# EAGLE library part MICRO_FIT_3.0_16POS_RA (library UBCSolar)
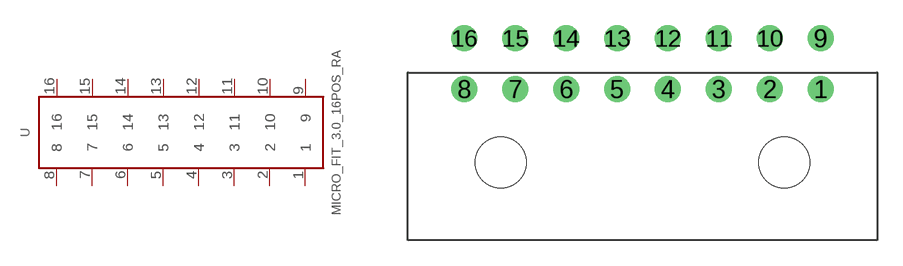
[diagram p19: symbol with the pads of MICRO_FIT_3.0_16POS_RA; footprint MICRO_FIT_3.0_16POS_RA]

Designator prefix -

## MICRO_FIT_3.0_16POS_RA  [MICRO_FIT_3.0_16POS_RA]
1  1
2  2
3  3
4  4
5  5
6  6
7  7
8  8
9  9
10  10
11  11
12  12
13  13
14  14
15  15
16  16

## Footprint MICRO_FIT_3.0_16POS_RA (pad centres in mm)
Micro-Fit 3.0 16pos, right angle: https://www.digikey.ca/product-detail/en/molex/0430451600/WM4724-ND/531424
drill 1.02: 1 10.5,-1.5; 2 7.5,-1.5; 3 4.5,-1.5; 4 1.5,-1.5; 5 -1.5,-1.5; 6 -4.5,-1.5; 7 -7.5,-1.5; 8 -10.5,-1.5; 9 10.5,1.5; 10 7.5,1.5; 11 4.5,1.5; 12 1.5,1.5; 13 -1.5,1.5; 14 -4.5,1.5; 15 -7.5,1.5; 16 -10.5,1.5
hole 3 at -8.35,-5.82
hole 3 at 8.35,-5.82